# Altium footprint library SM_LED_YLL_5050RGBW.PcbLib: 1 footprints
Each footprint in its own frame and in the unit in brackets; x right, y up, seen from the top. Pads: shape width x height; smd on the part's side, far side on the other; paste and mask are expansions set on the pad; w line width, h text height; cw(c..) or ccw(c..) is an arc to the next point about the centre after c.
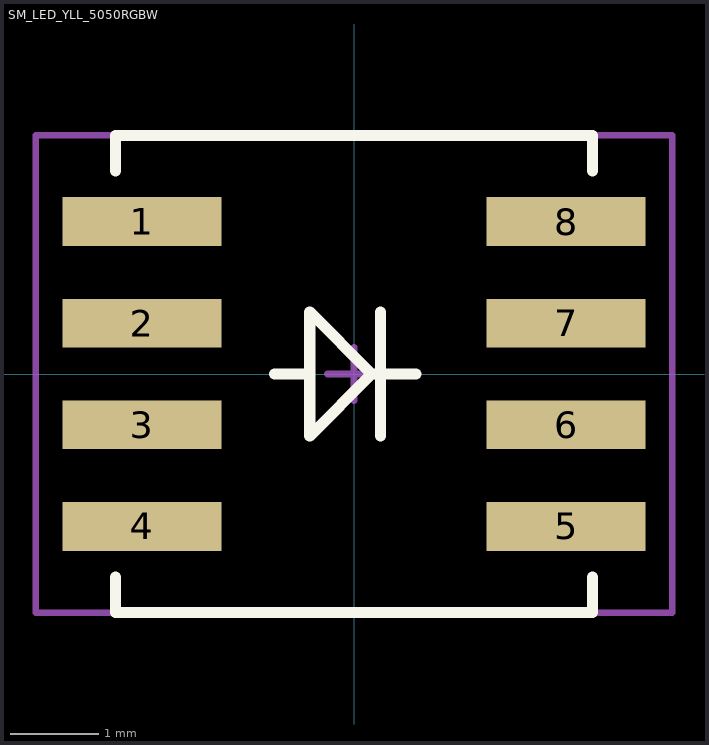
[diagram p0: the footprint, top view; thin cyan lines are the x and y axes]

## SM_LED_YLL_5050RGBW [mm] "5mm x 5mm RGBW LED"
height 1.5
pads (8):
  rect 1.8x0.55 smd mask+0.076: 1(-2.4,1.725) 2(-2.4,0.575) 3(-2.4,-0.575) 4(-2.4,-1.725) 5(2.4,-1.725) 6(2.4,-0.575) 7(2.4,0.575) 8(2.4,1.725)
Top Overlay:
  lines w0.127: -2.7,-2.3 -2.7,-2.7 2.7,-2.7 2.7,-2.3 ; -2.7,2.3 -2.7,2.7 2.7,2.7 2.7,2.3 ; -0.9,0 -0.5,0 ; 0.3,-0.7 0.3,0.7 ; 0.7,0 0.2,0 ; -0.5,-0.7 -0.5,0.7 0.2,0 ; -0.5,-0.7 -0.5,-0.7 ; -0.5,-0.7 0.2,0 ; 0.2,0 0.2,0
Mechanical 15:
  lines w0.076: -0.3,0 0.3,0 ; 0,-0.3 0,0.3 ; -3.6,-2.7 3.6,-2.7 3.6,2.7 -3.6,2.7 -3.6,-2.7
3D body: height 1.53, standoff 1.5, extent -2.4,-2.398 -1.4,-1.398
3D body: height 1.53, standoff 1.5, extent -1.8,1.15 1.8,2.125
3D body: height 1.53, standoff 1.5, extent -2.1,0.075 2.1,1.05
3D body: height 1.53, standoff 1.5, extent -2.1,-1.05 2.1,-0.075
3D body: height 1.53, standoff 1.5, extent -1.8,-2.125 1.8,-1.15
3D body: height 1.27, standoff 0, extent -0.35,-4.15 -0.35,-4.15
3D body: height 1.52, standoff 1.5, extent -2.2,-2.197 2.2,2.197
3D body: height 1.5, standoff 0, extent -2.5,-2.5 2.5,2.5